# Altium footprint library 4-Pcblib_Diode.PcbLib: 24 footprints (part 1 of 2)
Each footprint in its own frame and in the unit in brackets; x right, y up, seen from the top. Pads: shape width x height; smd on the part's side, far side on the other; paste and mask are expansions set on the pad; w line width, h text height; cw(c..) or ccw(c..) is an arc to the next point about the centre after c.
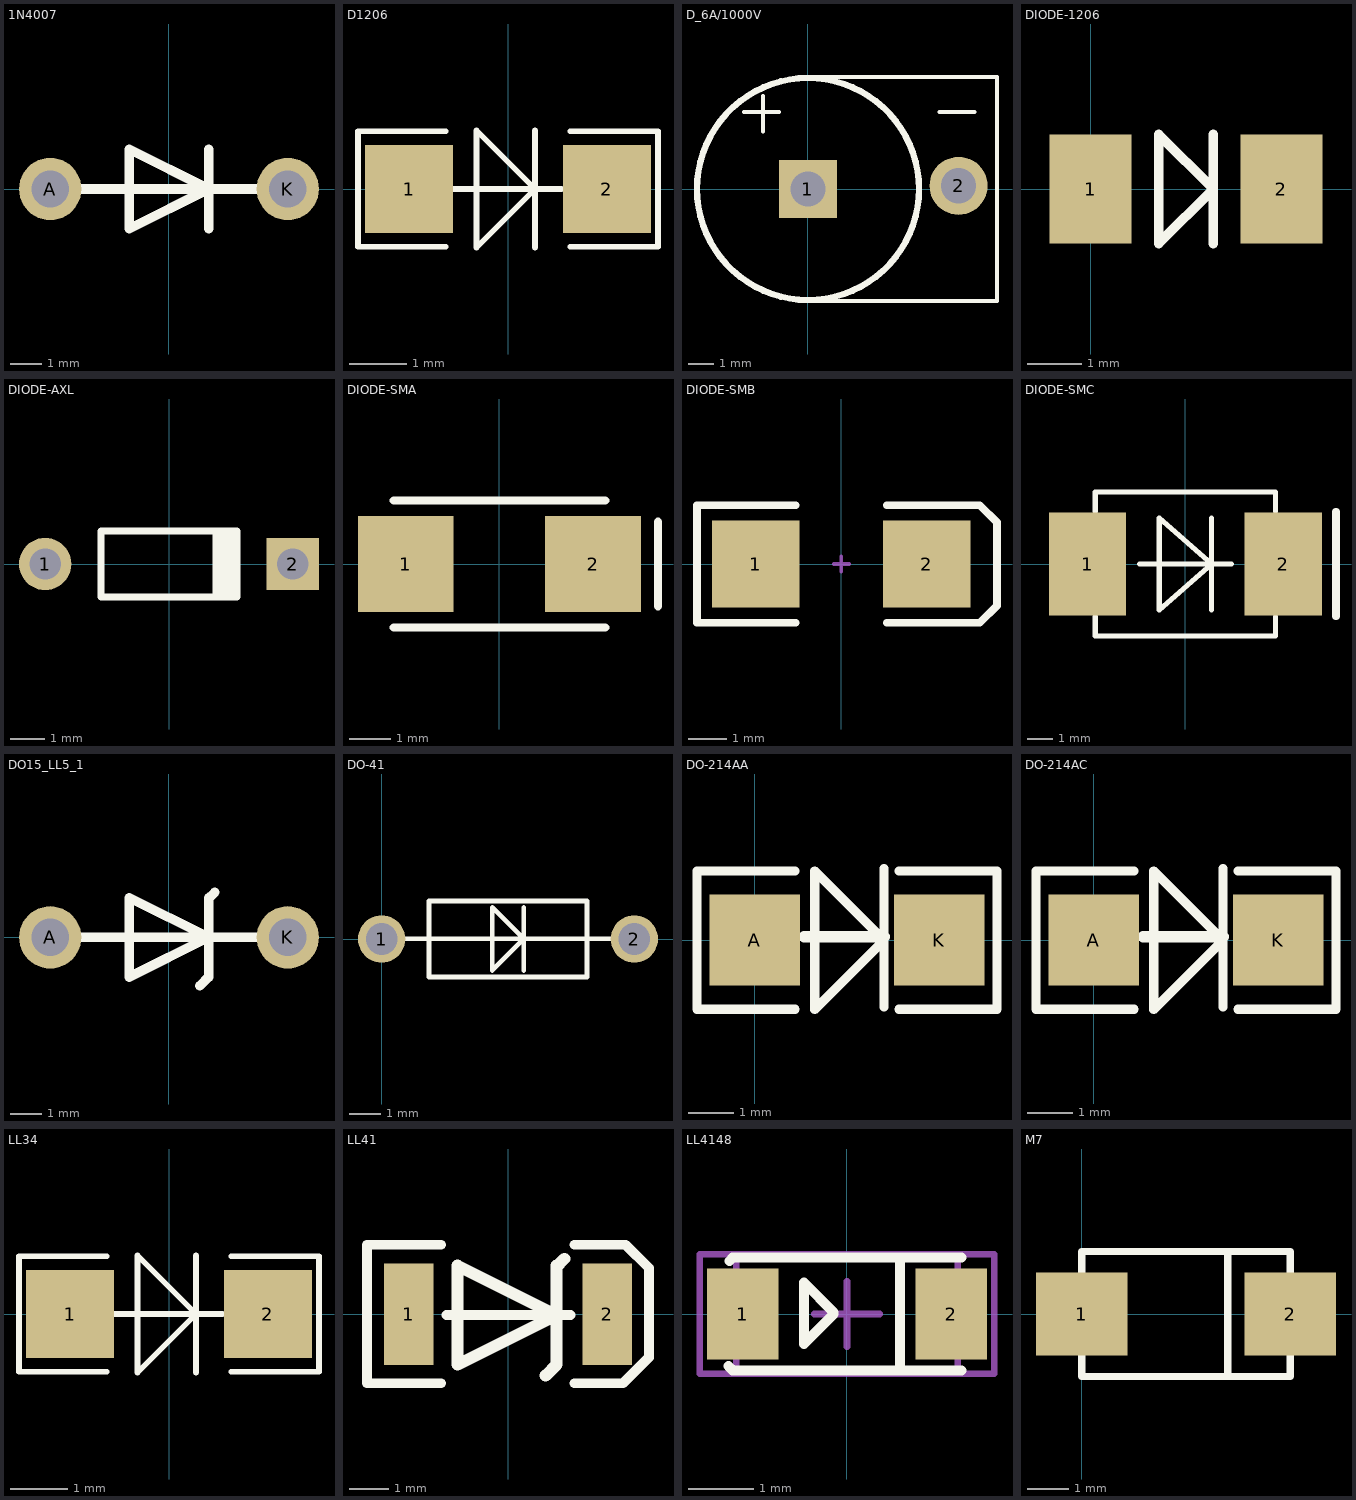
[diagram p0: the footprints below, top view; thin cyan lines are the x and y axes]

## 1N4007 [mm]
height 1.2
pads (2):
  round 2 hole 1.2: A(-3.81,0) K(3.81,0)
Top Overlay:
  lines w0.305: -3.81,0 3.81,0 ; 1.27,-1.27 1.27,1.27 ; -1.27,-1.27 1.27,0 -1.27,1.27 -1.27,-1.27
3D body: height 4.03, standoff -2.5, extent -4.235,-1.549 4.185,1.501

## D1206 [mil]
pads (2):
  rect 60x60 smd: 1(-67.5,0) 2(67.5,0)
Top Overlay:
  lines w3.94: -42.5,-39.37 -102.36,-39.37 -102.36,39.37 -42.5,39.37 ; -37.5,0 36.5,0 ; 18.5,-40 18.5,0 ; 18.5,40 18.5,0 ; 42.5,-39.37 102.36,-39.37 102.36,39.37 42.5,39.37 ; 18.5,0 -21.5,-40 -21.5,40 18.5,0
3D body: height 59.06, standoff 0, extent -66.4,-30 71.4,29.06

## D_6A/1000V [mm]
pads (2):
  rect 2.3x2.3 hole 1.4: 1(0,0)
  round 2.3 hole 1.4: 2(5.969,0.127)
Top Overlay:
  circle w0.254: c0,0 r4.4
  lines w0.152: -2.54,3.048 -1.143,3.048 ; -1.778,2.286 -1.778,3.683 ; -0.127,4.445 7.493,4.445 7.493,-4.445 0.127,-4.445 ; 5.207,3.048 6.604,3.048

## DIODE-1206 [mm] "玻璃封装二极管"
height 3
pads (2):
  rect 1.5x2 smd: 1(0,0) 2(3.5,0)
Top Overlay:
  lines w0.178: 2.25,-1 2.25,1 ; 1.25,-1 1.25,1 2.25,0 1.25,-1
3D body: height 1.53, standoff 0.08, extent 0,-0.725 3.5,0.725

## DIODE-AXL [mm] "直插二极管"
height 1.9
pads (2):
  round 1.5 hole 0.9: 1(-3.55,0)
  rect 1.5x1.5 hole 0.9: 2(3.55,0)
Top Overlay:
  rectangle: 1.25,-0.95 2.05,0.95
  lines w0.2: 1.95,-0.95 -1.95,-0.95 -1.95,0.95 1.95,0.95
3D body: height 2.5, standoff -4, extent -3.75,-1.016 3.75,0.984

## DIODE-SMA [mm] "贴片二极管"
height 2.54
pads (2):
  rect 2.3x2.3 smd: 1(-2.25,0) 2(2.25,0)
Top Overlay:
  lines w0.2: -2.54,-1.524 2.54,-1.524 ; -2.54,1.524 2.54,1.524 ; 3.81,-1.016 3.81,1.016
3D body: height 2.34, standoff 0.06, extent -2.743,-1.524 2.743,1.27

## DIODE-SMB [mm] "贴片二极管"
height 2.54
pads (2):
  rect 2.3x2.3 smd: 1(-2.25,0) 2(2.25,0)
Top Overlay:
  lines w0.2: -1.2,-1.55 -3.8,-1.55 -3.8,1.55 -1.2,1.55 ; 1.2,-1.55 3.65,-1.55 4.1,-1.1 4.1,1.1 3.65,1.55 1.2,1.55
Mechanical 1:
  lines w0.1: -0.2,0 0.2,0 ; 0,-0.2 0,0.2
3D body: height 2.65, standoff 0, extent -2.921,-1.905 2.667,2.045

## DIODE-SMC [mm] "贴片二极管"
height 1.5
pads (2):
  rect 3x4 smd: 1(-3.8,0) 2(3.8,0)
Top Overlay:
  lines w0.2: -3.5,-2.032 -3.5,-2.794 3.5,-2.794 3.5,-2.032 ; -3.5,2.032 -3.5,2.794 3.5,2.794 3.5,2.032 ; -1.778,0 1.778,0 ; 1.016,-1.778 1.016,1.778 ; -1.016,-1.778 -1.016,1.778 1.016,0 -1.016,-1.778
  lines w0.3: 5.842,-2.032 5.842,2.032
3D body: height 2.62, standoff -0.02, extent -3.81,-3.15 4.318,3.15

## DO15_LL5_1 [mm]
height 1.2
pads (2):
  round 2 hole 1.2: A(-3.81,0) K(3.81,0)
Top Overlay:
  lines w0.305: -3.81,0 3.81,0 ; 0.991,-1.549 1.27,-1.27 1.27,1.27 ; 1.27,1.245 1.473,1.448 ; -1.27,-1.27 -1.27,1.27 1.27,0 -1.27,-1.27
3D body: height 4.1, standoff -2.5, extent -4.083,-1.625 4.337,1.575

## DO-41 [mm]
height 2.7
pads (2):
  round 1.5 hole 1: 1(0,0) 2(8,0)
Top Overlay:
  lines w0.15: 0.009,0.009 8,0.009 ; 4.5,-1 4.5,1 ; 1.5,-1.2 6.5,-1.2 6.5,1.2 1.5,1.2 1.5,-1.2 ; 3.5,-1 3.5,1 4.491,0.009 4.5,0.009 3.5,-0.991 3.5,-1
3D body: height 2.15, standoff -2.54, extent -0.254,-0.864 8.28,0.889

## DO-214AA [mm]
pads (2):
  rect 2x2 smd: A(0,0.006) K(4.064,0.006)
Top Overlay:
  lines w0.203: 0.889,-1.518 -1.27,-1.518 -1.27,1.53 0.889,1.53 ; 2.847,-1.465 2.847,1.583 ; 2.847,0.004 1.323,-1.52 1.323,1.528 2.848,0.003 ; 3.175,-1.518 5.334,-1.518 5.334,1.53 3.175,1.53
  lines w0.254: 1.092,0.076 2.847,0.076
3D body: height 2.5, standoff 0, extent -0.768,-1.95 4.832,1.95

## DO-214AC [mm]
pads (2):
  rect 2x2 smd: A(0,0.006) K(4.064,0.006)
Top Overlay:
  lines w0.203: 0.889,-1.518 -1.27,-1.518 -1.27,1.53 0.889,1.53 ; 2.847,-1.465 2.847,1.583 ; 2.847,0.004 1.323,-1.52 1.323,1.528 2.848,0.003 ; 3.175,-1.518 5.334,-1.518 5.334,1.53 3.175,1.53
  lines w0.254: 1.092,0.076 2.847,0.076
3D body: height 2.12, standoff -0.02, extent -0.457,-1.321 4.648,1.346

## LL34 [mil]
pads (2):
  rect 60x60 smd: 1(-67.5,0) 2(67.5,0)
Top Overlay:
  lines w3.94: -42.5,-39.37 -102.36,-39.37 -102.36,39.37 -42.5,39.37 ; -37.5,0 36.5,0 ; 18.5,-40 18.5,0 ; 18.5,40 18.5,0 ; 42.5,-39.37 102.36,-39.37 102.36,39.37 42.5,39.37 ; 18.5,0 -21.5,40 -21.5,-40 18.5,0
3D body: height 59.06, standoff 0, extent -66.4,-30 71.4,29.06

## LL41 [mm]
pads (2):
  rect 1.27x2.6 smd: 1(-2.55,0) 2(2.55,0)
Top Overlay:
  lines w0.254: -1.717,-1.774 -3.622,-1.774 -3.622,1.782 -1.717,1.782 ; -1.575,-0.025 1.6,-0.025 ; 1.712,-1.774 2.951,-1.774 3.617,-1.108 3.617,1.184 3.018,1.782 1.712,1.782
  lines w0.305: 0.965,-1.575 1.245,-1.295 1.245,1.245 ; 1.245,1.219 1.448,1.422 ; -1.295,-1.295 1.245,-0.025 -1.295,1.245 -1.295,-1.295
3D body: height 2.64, standoff -0.04, extent -2.625,-1.4 2.575,1.27

## LL4148 [mm]
pads (2):
  rect 1.1x1.4 smd: 1(-1.6,0) 2(1.6,0)
Top Overlay:
  lines w0.152: -1.816,-0.8 -1.753,-0.864 1.753,-0.864 ; -1.803,0.813 -1.753,0.864 1.753,0.864 ; -0.203,0 -0.66,-0.457 -0.66,0.483 -0.203,0.025 ; 0.813,-0.813 0.813,0.838
Mechanical 13:
  lines w0.1: -1.7,-0.875 -1.7,0.875 1.7,0.875 1.7,-0.875 -1.7,-0.875
Mechanical 15:
  lines w0.1: -0.5,0 0.5,0 ; 0,-0.5 0,0.5 ; -2.261,-0.914 -2.261,0.914 2.261,0.914 2.261,-0.914 -2.261,-0.914
3D body: height 1.5, standoff 0, extent -1.788,-0.737 1.712,0.763

## M7 [mm]
height 1.2
pads (2):
  rect 2.2x2 smd: 1(0,0) 2(5,0)
Top Overlay:
  lines w0.178: 0,-1 0,-1.5 5,-1.5 5,-1 ; 0,1 0,1.5 5,1.5 5,1 ; 3.5,-1.5 3.5,1.5
3D body: height 2.4, standoff 0, extent 0.189,-1.324 4.789,1.376